# Altium schematic symbol library RMCF1206JT470R.SchLib: 1 symbol
Pins are listed as number, name and electrical type; pins without a type are passive.

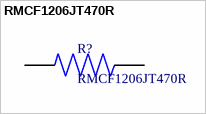
[diagram p0: symbol RMCF1206JT470R]

## RMCF1206JT470R
designator R?
RES 470 OHM 5% 1/4W 1206; Value: 470
footprint RMCF1206JT470R
pins: 1, 1, 2, 2